# Altium schematic symbol library GY-953.SchLib: 1 symbol
Pins are listed as number, name and electrical type; pins without a type are passive.

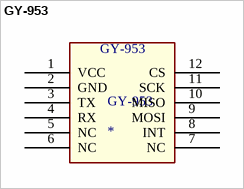
[diagram p0: symbol GY-953]

## GY-953
designator GY-953
pins: 1 VCC, 2 GND, 3 TX, 4 RX, 5 NC, 6 NC, 7 NC, 8 INT, 9 MOSI, 10 MISO, 11 SCK, 12 CS